# Altium footprint library ESP32_XPID.PcbLib: 1 footprints
Each footprint in its own frame and in the unit in brackets; x right, y up, seen from the top. Pads: shape width x height; smd on the part's side, far side on the other; paste and mask are expansions set on the pad; w line width, h text height; cw(c..) or ccw(c..) is an arc to the next point about the centre after c.
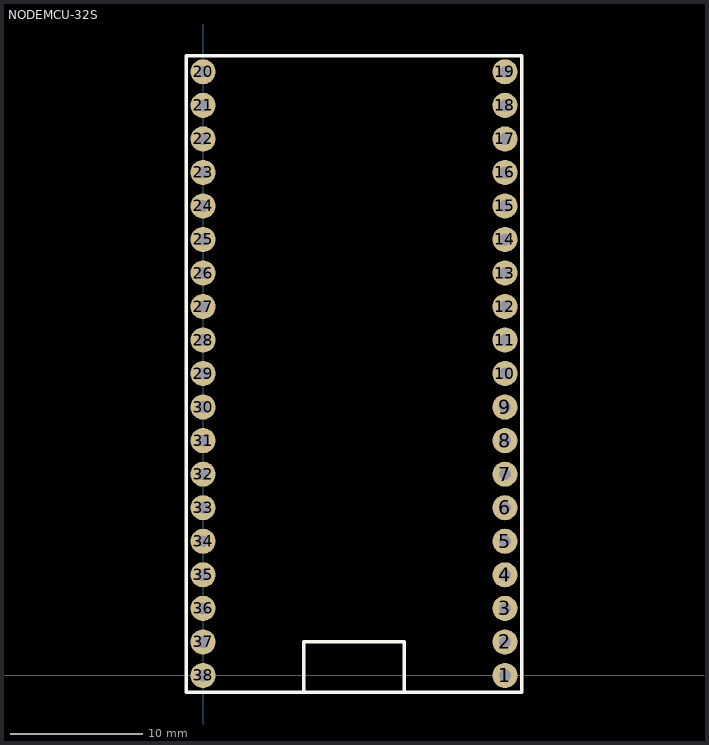
[diagram p0: the footprint, top view; thin cyan lines are the x and y axes]

## NODEMCU-32S [mm]
pads (38):
  round 1.9 hole 0.9: 1(22.86,0) 2(22.86,2.54) 3(22.86,5.08) 4(22.86,7.62) 5(22.86,10.16) 6(22.86,12.7) 7(22.86,15.24) 8(22.86,17.78) 9(22.86,20.32) 10(22.86,22.86) 11(22.86,25.4) 12(22.86,27.94) 13(22.86,30.48) 14(22.86,33.02) 15(22.86,35.56) 16(22.86,38.1) 17(22.86,40.64) 18(22.86,43.18) 19(22.86,45.72) 20(0,45.72) 21(0,43.18) 22(0,40.64) 23(0,38.1) 24(0,35.56) 25(0,33.02) 26(0,30.48) 27(0,27.94) 28(0,25.4) 29(0,22.86) 30(0,20.32) 31(0,17.78) 32(0,15.24) 33(0,12.7) 34(0,10.16) 35(0,7.62) 36(0,5.08) 37(0,2.54) 38(0,0)
Top Overlay:
  lines w0.254: -1.27,-1.27 -1.27,46.93 24.13,46.93 24.13,-1.27 -1.23,-1.27 ; 7.62,-1.27 7.62,2.54 12.7,2.54 15.24,2.54 15.24,-1.27